# Altium schematic symbol library CT1000-1.SchLib: 1 symbol
Pins are listed as number, name and electrical type; pins without a type are passive.

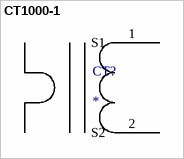
[diagram p0: symbol CT1000-1]

## CT1000-1
designator CT?
Current transformer
footprint PCBComponent_1
pins: 1 S1, 2 S2